# EAGLE library part EC2-5NU (library MMC Eagle)
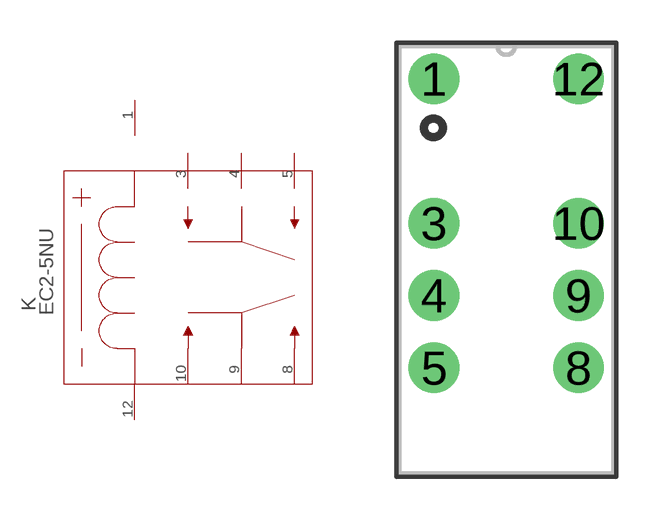
[diagram p4: symbol with the pads of EC2NU; footprint EC2NU]

Designator prefix K

## EC2-5NU (MANUFACTURER_PART_NUMBER: EC25NU; VENDOR: KEMET)  [EC2NU]
1  1  pas
3  2  pas
4  3  pas
5  4  pas
8  5  pas
9  6  pas
10  7  pas
12  8  pas

## Footprint EC2NU (pad centres in mm)
drill 0.889 pad 1.778: 1 -5.08,12.725; 3 -5.08,7.645; 4 -5.08,5.105; 5 -5.08,2.565; 8 0,2.565; 9 0,5.105; 10 0,7.645; 12 0,12.725